# Altium schematic symbol library Ind_TDK_ MLG1005SR22JT000_220nH.SchLib: 1 symbol
Pins are listed as number, name and electrical type; pins without a type are passive.

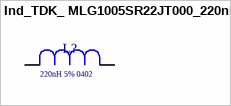
[diagram p0: symbol Ind_TDK_ MLG1005SR22JT000_220nH]

## Ind_TDK_ MLG1005SR22JT000_220nH
designator L?  Inductance: 220nH 5% 0402  (hidden comment: Ind_TDK_ MLG1005SR22JT000_220nH)
Fixed Inductors .22 UH 5%; Supplier 1: Mouser; Supplier Part Number 1: 810-MLG1005SR22JT000
footprint Ind_TDK_ MLG1005SR22JT000_220nH
pins: 1, 2